# EAGLE library part MCP3304 (library microchip2)
The Microchip Technology Inc. MCP3304 13-bit A/D converters feature full differential inputs and low-power consumption in a small package that is ideal for battery powered systems and remote data acquisition applications. The MCP3302 is programmable to provide two differential input pairs or four single ended inputs. The MCP3304 is programmable and provides four differential input pairs or eight single ended inputs.
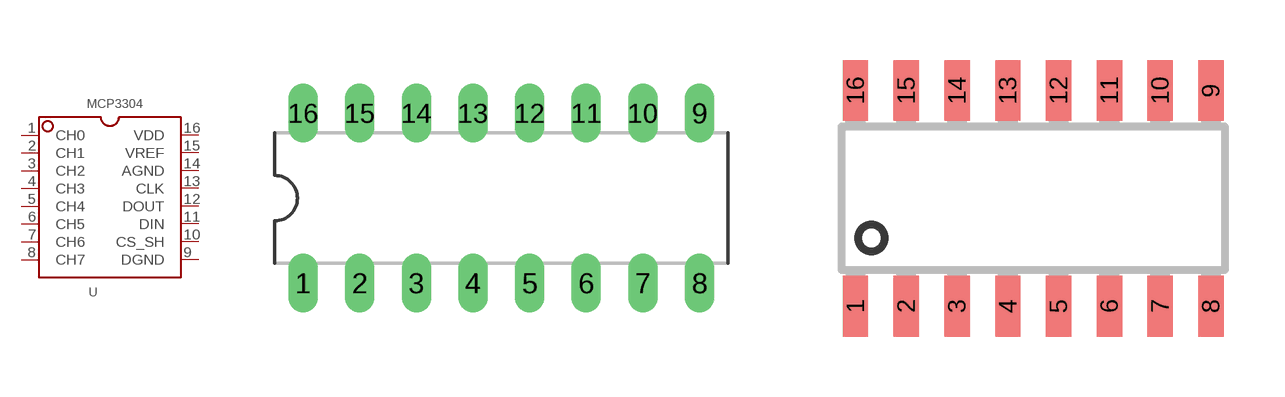
[diagram p183: symbol with the pads of DIL16; footprints DIL16, SOIC16]

Designator prefix -

## MCP3304  [DIL16]
1  CH0  in
2  CH1  in
3  CH2  in
4  CH3  in
5  CH4  in
6  CH5  in
7  CH6  in
8  CH7  in
9  DGND  pwr
10  CS_SH
11  DIN  in
12  DOUT  out
13  CLK  in
14  AGND  pwr
15  VREF  pwr
16  VDD  pwr

## MCP3304SMD  [SOIC16]
Pads as for DIL16

## Footprint DIL16 (pad centres in mm)
Dual In Line Package
drill 0.813 long: 1 -8.89,-3.81; 2 -6.35,-3.81; 3 -3.81,-3.81; 4 -1.27,-3.81; 5 1.27,-3.81; 6 3.81,-3.81; 7 6.35,-3.81; 8 8.89,-3.81; 9 8.89,3.81; 10 6.35,3.81; 11 3.81,3.81; 12 1.27,3.81; 13 -1.27,3.81; 14 -3.81,3.81; 15 -6.35,3.81; 16 -8.89,3.81

## Footprint SOIC16 (pad centres in mm)
SMALL OUTLINE INTEGRATED CIRCUIT
smd 0.635 x 1.524: 1 -4.445,-2.695; 2 -3.175,-2.695; 3 -1.905,-2.695; 4 -0.635,-2.695; 5 0.635,-2.695; 6 1.905,-2.695; 7 3.175,-2.695; 8 4.445,-2.695; 9 4.445,2.695; 10 3.175,2.695; 11 1.905,2.695; 12 0.635,2.695; 13 -0.635,2.695; 14 -1.905,2.695; 15 -3.175,2.695; 16 -4.445,2.695